# Altium schematic symbol library Schlib1.SchLib: 13 symbols
Pins are listed as number, name and electrical type; pins without a type are passive.

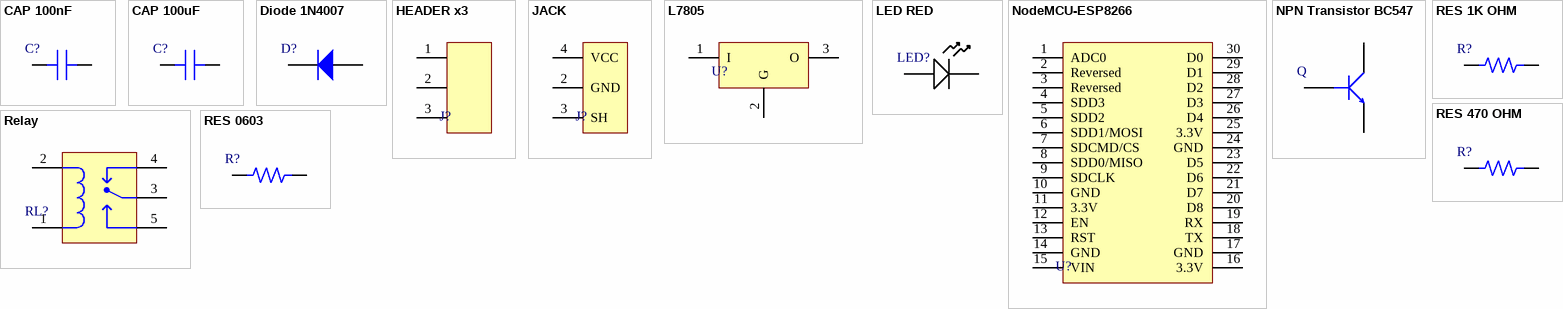
[diagram p0: symbols CAP 100nF to RES 0603]

## CAP 100nF
designator C?, comment 100nF  (value not drawn)
footprint CAP 100nF
pins: 1, 2

## CAP 100uF
designator C?, comment 100uF  (value not drawn)
footprint CAP 100uF
pins: 1, 2

## Diode 1N4007
designator D?, comment 1N4007  (value not drawn)
1N4007 Rectifier Diode 1 A 1000 V DO-41 Axial 4007 1 amp 1000 Volt Electronic Silicon Diodes
footprint DIODE - 1N4007
pins: 1 ANODE, 2 CATHODE

## HEADER x3
designator J?  (value not drawn)
TERM BLK 3POS SIDE ENT 3.5MM PCB
footprint hEADER X3
pins: 1, 2, 3

## JACK
designator J?  (value not drawn)
5.5 x 2.1 mm DC güç jak soketi
footprint JACK
pins: 2 GND (power), 3 SH (power), 4 VCC (power)

## L7805
designator U?  (value not drawn)
5V REG
footprint L7805
pins: 1 I, 2 G, 3 O

## LED RED
designator LED?  (value not drawn)
footprint LED
pins: 1, 2

## NodeMCU-ESP8266
designator U?  (value not drawn)
HiLetgo 3pcs ESP8266 NodeMCU CP2102 ESP-12E Development Board Open Source Serial Module Works Great for Arduino IDE/Micropython (Large)
footprint NodeMCU-ESP8266
pins: 1 ADC0, 2 Reversed, 3 Reversed, 4 SDD3, 5 SDD2, 6 SDD1/MOSI, 7 SDCMD/CS, 8 SDD0/MISO, 9 SDCLK, 10 GND, 11 3.3V, 12 EN, 13 RST, 14 GND, 15 VIN, 16 3.3V, 17 GND, 18 TX, 19 RX, 20 D8, 21 D7, 22 D6, 23 D5, 24 GND, 25 3.3V, 26 D4, 27 D3, 28 D2, 29 D1, 30 D0

## NPN Transistor BC547
designator Q, comment BC547  (value not drawn)
NPN Transistor BC547
footprint BC547 - NPN
pins: 1 B, 2 E, 3 C

## Relay
designator RL?  (value not drawn)
SPDT 5V RELAY
footprint RELAY
pins: 1, 2, 3, 4, 5

## RES 1K OHM
designator R?  (value not drawn)
Resistor thru-hole Axial 0.4
footprint RES 1K OHM
pins: 1, 2

## RES 470 OHM
designator R?  (value not drawn)
Resistor thru-hole Axial 0.4
footprint RES 470 OHM
pins: 1, 2

## RES 0603
designator R?  (value not drawn)
footprint RES 0603
pins: 1, 2